# Altium schematic symbol library SCH_USB.SchLib: 2 symbols
Pins are listed as number, name and electrical type; pins without a type are passive.

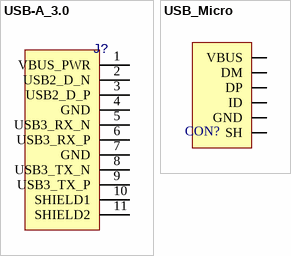
[diagram p0: symbols USB-A_3.0 to USB_Micro]

## USB-A_3.0
designator J?  (value not drawn)
USB 3.0 Female
pins: 1 VBUS_PWR, 2 USB2_D_N, 3 USB2_D_P, 4 GND, 5 USB3_RX_N, 6 USB3_RX_P, 7 GND, 8 USB3_TX_N, 9 USB3_TX_P, 10 SHIELD1, 11 SHIELD2

## USB_Micro
designator CON?, comment Micro-AB  (value not drawn)
USB; Manufacturer: Molex, LLC; Manufacturer Part Number: 0475900001; 梱包形態: カット テープ（CT）; 部品状況: 有効; コネクタタイプ: USB - マイクロUSB AB; コンタクト数: 5; オス/メス: レセプタクル; 実装タイプ: 面実装、ライトアングル、スルーホール; マウント性能: 水平; 終端: はんだ; 特長: ピックアンドプレース、はんだ保持; 動作温度: -35°C～85°C; 定格電流: 1A、1.8A; 電圧 - 定格: 30VAC; 嵌合サイクル: 10000; シールド: シールド付き; コンタクト仕上げ: 金; シェル/シールド材料: スチール - ステンレス; 材質難燃性グレード: UL94 V-0; 絶縁色: 黒; Supplier 1: Digi-Key; RoHS: RoHS Compliant; Category: コネクタ、相互接続; Stock 1: 7890; Pricing 1: 1=89, 10=78.1, 25=73.52, 50=70.46, 100=67.4, 250=61.276, 500=55.148 (JPY); 仕様: -; 防塵防水: -; ComponentLink1URL: http://www.molex.com/pdm_docs/sd/475900001_sd.pdf; ComponentLink1Description: http://www.molex.com/pdm_docs/sd/475900001_sd.pdf; Supplier Part Number 1: WM17144CT-ND
footprint USB_Micro-AB
pins: 1 VBUS, 2 DM, 3 DP, 4 ID, 5 GND, 8 SH